# Altium integrated library Hydrated_Buffs.IntLib: 12 symbols
Pins are listed as number, name and electrical type; pins without a type are passive.

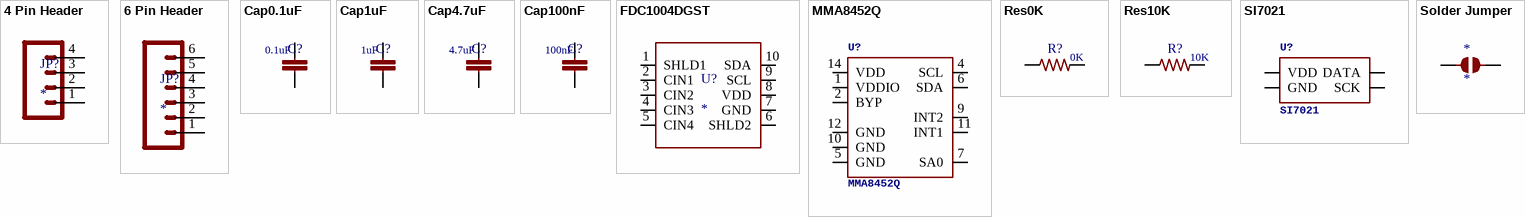
[diagram p0: symbols 4 Pin Header to Solder Jumper]

## 4 Pin Header
designator JP?
pins: 1, 2, 3, 4

## 6 Pin Header
designator JP?
pins: 1, 2, 3, 4, 5, 6

## Cap0.1uF
designator C?  value 0.1uF  (hidden comment: *)
pins: 1, 2

## Cap1uF
designator C?  value 1uF  (hidden comment: *)
pins: 1, 2

## Cap4.7uF
designator C?  value 4.7uF  (hidden comment: *)
pins: 1, 2

## Cap100nF
designator C?  value 100nF  (hidden comment: *)
pins: 1, 2

## FDC1004DGST
designator U?
footprint FDC1004DGST
pins: 1 SHLD1, 2 CIN1, 3 CIN2, 4 CIN3, 5 CIN4, 6 SHLD2, 7 GND, 8 VDD, 9 SCL, 10 SDA

## MMA8452Q
designator U?
MMA8452Q 3-Axis, 12/8-bit Digital Accelerometer  Supply Voltage: 1.6-3.6V  Range: +/- 2g, 4g, 8g  Interface: I2C, 12-bit and 8-bit  ODR: 1.56 Hz - 800 Hz  Package: QFN-16      http://cache.freescale.com/files/sensors/doc/data_sheet/MMA8452Q.pdf
footprint QFN-16_0.5MM
pins: 1 VDDIO, 2 BYP, 4 SCL, 5 GND, 6 SDA, 7 SA0, 9 INT2, 10 GND, 11 INT1, 12 GND, 14 VDD

## Res0K
designator R?  value 0K  (hidden comment: *)
pins: 1, 2

## Res10K
designator R?  value 10K  (hidden comment: *)
pins: 1, 2

## SI7021
designator U?
The Si7021 is an I2C Humidity and Temperature Sensor; PROD_ID: IC-13093
footprint SI7021
pins: DATA, GND (power), SCK, VDD (power)

## Solder Jumper
designator *
pins: 1, 2